# EAGLE library part FT2232HL-REEL (library FT2232HL-REEL)
USB Hi-Speed to Dual Channel Serial UART/FIFO/JTAG/SPI/I2C IC - LQFP-64
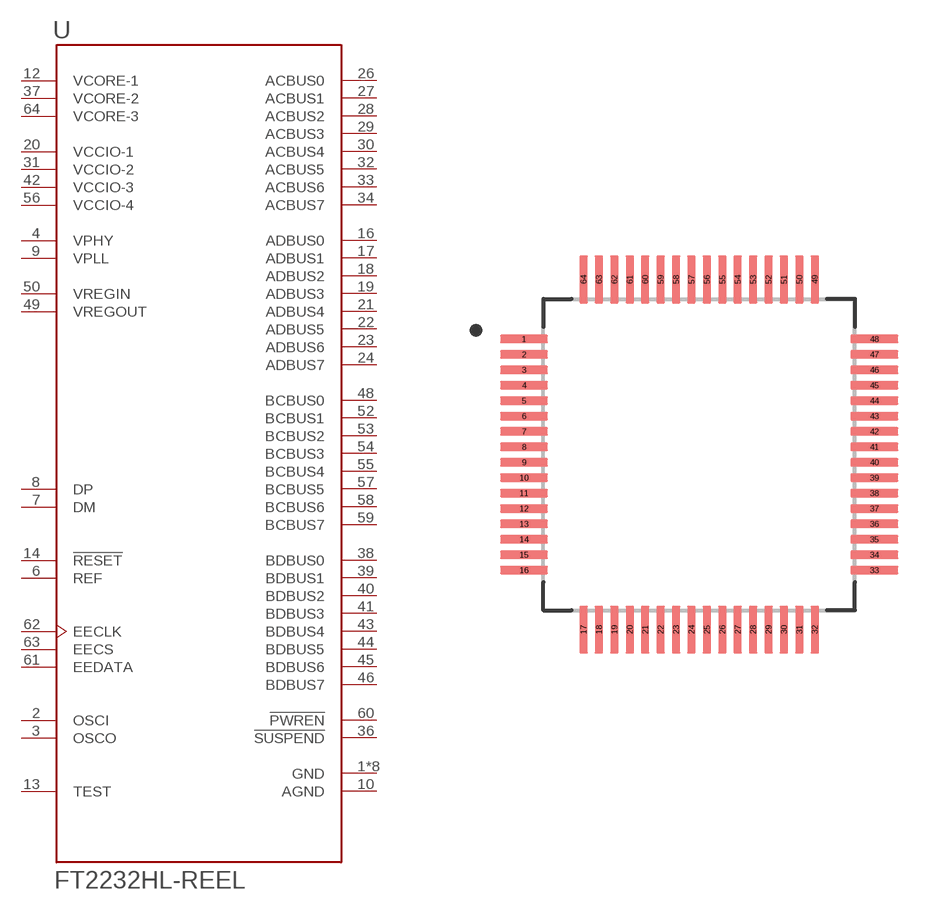
[diagram p0: symbol with the pads of QFP50P1200X1200X160-64N; footprint QFP50P1200X1200X160-64N]

Designator prefix U

## FT2232HL-REEL (AVAILABILITY: Unavailable; DESCRIPTION: USB Hi-Speed to Dual Channel Serial UART/FIFO/JTAG/SPI/I2C IC - LQFP-64; MF: FTDI,; MP: FT2232HL-REEL; PACKAGE: LQFP-64 FTDI; PRICE: None)  [QFP50P1200X1200X160-64N]
1  GND  pwr
2  OSCI  in
3  OSCO  out
4  VPHY  pwr
5  GND  pwr
6  REF  in
7  DM
8  DP
9  VPLL  pwr
10  AGND  pwr
11  GND  pwr
12  VCORE-1  pwr
13  TEST  in
14  !RESET  in
15  GND  pwr
16  ADBUS0
17  ADBUS1
18  ADBUS2
19  ADBUS3
20  VCCIO-1  pwr
21  ADBUS4
22  ADBUS5
23  ADBUS6
24  ADBUS7
25  GND  pwr
26  ACBUS0
27  ACBUS1
28  ACBUS2
29  ACBUS3
30  ACBUS4
31  VCCIO-2  pwr
32  ACBUS5
33  ACBUS6
34  ACBUS7
35  GND  pwr
36  !SUSPEND  out
37  VCORE-2  pwr
38  BDBUS0
39  BDBUS1
40  BDBUS2
41  BDBUS3
42  VCCIO-3  pwr
43  BDBUS4
44  BDBUS5
45  BDBUS6
46  BDBUS7
47  GND  pwr
48  BCBUS0
49  VREGOUT  pwr
50  VREGIN  pwr
51  GND  pwr
52  BCBUS1
53  BCBUS2
54  BCBUS3
55  BCBUS4
56  VCCIO-4  pwr
57  BCBUS5
58  BCBUS6
59  BCBUS7
60  !PWREN  out
61  EEDATA
62  EECLK  out
63  EECS
64  VCORE-3  pwr

## Footprint QFP50P1200X1200X160-64N (pad centres in mm)
smd 1.56 x 0.28: 1 -5.68,3.75; 2 -5.68,3.25; 3 -5.68,2.75; 4 -5.68,2.25; 5 -5.68,1.75; 6 -5.68,1.25; 7 -5.68,0.75; 8 -5.68,0.25; 9 -5.68,-0.25; 10 -5.68,-0.75; 11 -5.68,-1.25; 12 -5.68,-1.75; 13 -5.68,-2.25; 14 -5.68,-2.75; 15 -5.68,-3.25; 16 -5.68,-3.75; 33 5.68,-3.75; 34 5.68,-3.25; 35 5.68,-2.75; 36 5.68,-2.25; 37 5.68,-1.75; 38 5.68,-1.25; 39 5.68,-0.75; 40 5.68,-0.25; 41 5.68,0.25; 42 5.68,0.75; 43 5.68,1.25; 44 5.68,1.75; 45 5.68,2.25; 46 5.68,2.75; 47 5.68,3.25; 48 5.68,3.75
smd 0.28 x 1.56: 17 -3.75,-5.68; 18 -3.25,-5.68; 19 -2.75,-5.68; 20 -2.25,-5.68; 21 -1.75,-5.68; 22 -1.25,-5.68; 23 -0.75,-5.68; 24 -0.25,-5.68; 25 0.25,-5.68; 26 0.75,-5.68; 27 1.25,-5.68; 28 1.75,-5.68; 29 2.25,-5.68; 30 2.75,-5.68; 31 3.25,-5.68; 32 3.75,-5.68; 49 3.75,5.68; 50 3.25,5.68; 51 2.75,5.68; 52 2.25,5.68; 53 1.75,5.68; 54 1.25,5.68; 55 0.75,5.68; 56 0.25,5.68; 57 -0.25,5.68; 58 -0.75,5.68; 59 -1.25,5.68; 60 -1.75,5.68; 61 -2.25,5.68; 62 -2.75,5.68; 63 -3.25,5.68; 64 -3.75,5.68